# Altium integrated library ST RF and IF Modulator Demodulator.IntLib: 1 symbol
Pins are listed as number, name and electrical type; pins without a type are passive.

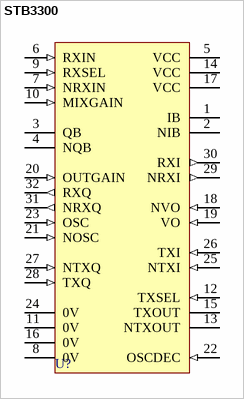
[diagram p0: symbol STB3300]

## STB3300
designator U?
GSM Receiver/Transmitter; Published: 24-Aug-2001; LatestRevisionDate: 13-Apr-2006; LatestRevisionNote: IPC-7351 Footprint Added.; DatasheetVersion: Sep-1994; PackageVersion: 1994; PackageReference: QFP32; Publisher: Altium Limited; PackageDescription: 32-Pin Quad Flat Pack 0.8 mm Pitch; ComponentLink1Description: Manufacturer Link; ComponentLink1URL: http://www.st.com/
footprint QFP32_N (QFP, 32-Leads, Body 7x7mm, Pitch 0.8mm, IPC Medium Density)
footprint QFP32_L (QFP, 32-Leads, Body 7x7mm, Pitch 0.8mm, IPC High Density)
footprint QFP32_M (QFP, 32-Leads, Body 7x7mm, Pitch 0.8mm, IPC Low Density)
3D model STB3300-QFP32 (32-Pin Quad Flat Pack 0.8 mm Pitch)
pins: 1 IB, 2 NIB, 3 QB, 4 NQB, 5 VCC (power), 6 RXIN (in), 7 NRXIN (in), 8 0V (power), 9 RXSEL (in), 10 MIXGAIN (in), 11 0V (power), 12 TXSEL (in), 13 NTXOUT (oc), 14 VCC (power), 15 TXOUT (oc), 16 0V (power), 17 VCC (power), 18 NVO (in), 19 VO (in), 20 OUTGAIN (in), 21 NOSC (in), 22 OSCDEC (in), 23 OSC (in), 24 0V (power), 25 NTXI (in), 26 TXI (in), 27 NTXQ (in), 28 TXQ (in), 29 NRXI (out), 30 RXI (out), 31 NRXQ (out), 32 RXQ (out)